# Altium footprint library BGS14PN10E6327XTSA1.PcbLib: 1 footprints
Each footprint in its own frame and in the unit in brackets; x right, y up, seen from the top. Pads: shape width x height; smd on the part's side, far side on the other; paste and mask are expansions set on the pad; w line width, h text height; cw(c..) or ccw(c..) is an arc to the next point about the centre after c.
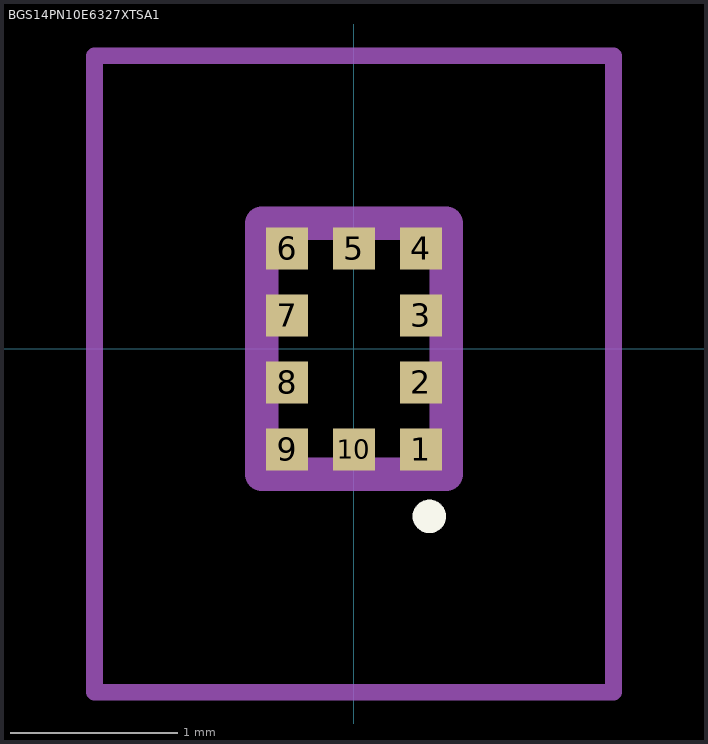
[diagram p0: the footprint, top view; thin cyan lines are the x and y axes]

## BGS14PN10E6327XTSA1 [mm]
pads (10):
  rect 0.25x0.25 smd: 1(0.4,-0.6) 2(0.4,-0.2) 3(0.4,0.2) 4(0.4,0.6) 5(0,0.6) 6(-0.4,0.6) 7(-0.4,0.2) 8(-0.4,-0.2) 9(-0.4,-0.6) 10(0,-0.6)
Top Overlay:
  lines w0.1: 0.4,-1 0.4,-1 ; 0.4,-1 ccw(c0.45,-1) 0.5,-1 ; 0.4,-1 cw(c0.45,-1) 0.5,-1 ; 0.5,-1 0.5,-1
Mechanical 15:
  lines w0.2: -0.55,-0.75 0.55,-0.75 0.55,0.75 -0.55,0.75 -0.55,-0.75
Mechanical 20:
  lines w0.1: -1.55,-2.05 1.55,-2.05 1.55,1.75 -1.55,1.75 -1.55,-2.05
3D body "BGS14PN10E6327XTSA1.stp": height 5.8, standoff -4.65, extent -10,-3.376 10,3.376